# EAGLE library part TXS0104ED_TXS0104ED (library GPS-IoT-Mezzanine)
Check prices <https://pricing.snapeda.com/parts/TXS0104ED/Texas%20Instruments/view-part?ref=eda>
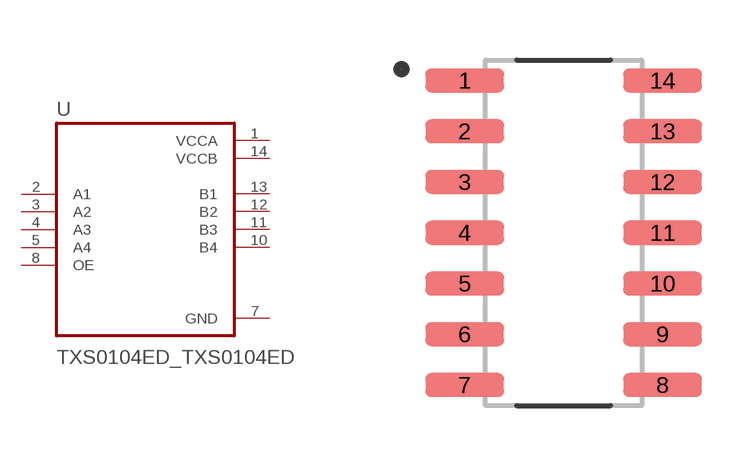
[diagram p3: symbol with the pads of TXS0104ED_SOIC127P600X175-14N; footprint TXS0104ED_SOIC127P600X175-14N]

Designator prefix U

## TXS0104ED_TXS0104ED (AVAILABILITY: Good; DESCRIPTION: 4-Bit Bidirectional Voltage-Level Shifter for Open-Drain and Push-Pull Applications 14-SOIC -40 to 85; MF: Texas Instruments; MP: TXS0104ED; PACKAGE: SOIC-14 Texas Instruments; PRICE: None; PURCHASE-URL: https://pricing.snapeda.com/search/part/TXS0104ED/?ref=eda)  [TXS0104ED_SOIC127P600X175-14N]
1  VCCA  pwr
2  A1  in
3  A2  in
4  A3  in
5  A4  in
7  GND  pwr
8  OE  in
10  B4  out
11  B3  out
12  B2  out
13  B1  out
14  VCCB  pwr

## Footprint TXS0104ED_SOIC127P600X175-14N (pad centres in mm)
smd 1.97 x 0.6: 1 -2.475,3.81; 2 -2.475,2.54; 3 -2.475,1.27; 4 -2.475,0; 5 -2.475,-1.27; 6 -2.475,-2.54; 7 -2.475,-3.81; 8 2.475,-3.81; 9 2.475,-2.54; 10 2.475,-1.27; 11 2.475,0; 12 2.475,1.27; 13 2.475,2.54; 14 2.475,3.81